# EAGLE library part SN65LVD*34? (library SN65LVD)
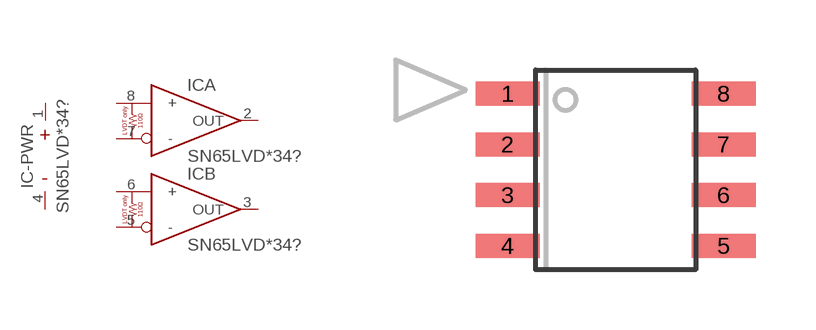
[diagram p0: symbol with the pads of SOIC8; footprint SOIC8]

Designator prefix IC; gates A=SN65LVD B=SN65LVD -PWR=PWR

## SN65LVDS34D (MF: Texas Instruments; MPN: SN65LVDS34D), SN65LVDT34D (MF: Texas Instruments; MPN: SN65LVDT34D)  [SOIC8]
1  -PWR:VCC
2  A:OUT
3  B:OUT
4  -PWR:GND
5  B:-
6  B:+
7  A:-
8  A:+

## Footprint SOIC8 (pad centres in mm)
smd 1.6 x 0.6: 1 -2.7,1.905; 2 -2.7,0.635; 3 -2.7,-0.635; 4 -2.7,-1.905; 5 2.7,-1.905; 6 2.7,-0.635; 7 2.7,0.635; 8 2.7,1.905